# Altium schematic symbol library SMD-DIODE-ZENER-15V-500MW_SOD-123_.SchLib: 1 symbol
Pins are listed as number, name and electrical type; pins without a type are passive.

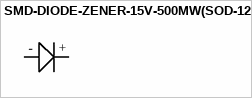
[diagram p0: symbol SMD-DIODE-ZENER-15V-500MW(SOD-123)]

## SMD-DIODE-ZENER-15V-500MW(SOD-123)
designator D?  (value not drawn)
DIODE ZENER 5.1V 500MW SOD123; Manufacturer Part Number: MMSZ5231BT1G; Other Names: MMSZ5231BT1GOSCT; Digi-Key Part Number: MMSZ5231BT1GOSCT-ND; Supplier Device Package: SOD-123
footprint SOD-123_SMD-DIODE-ZENER-15V-500MW(SOD-123)(Primary)
pins: +, -